# Altium schematic symbol library MEMORIAS.SchLib: 1 symbol
Pins are listed as number, name and electrical type; pins without a type are passive.

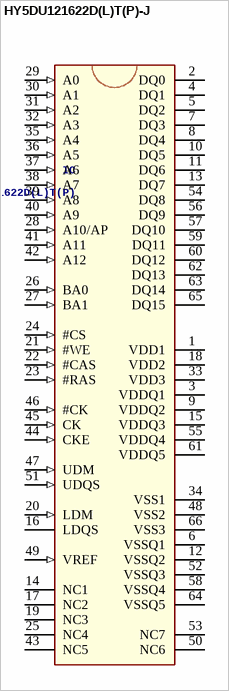
[diagram p0: symbol HY5DU121622D(L)T(P)-J]

## HY5DU121622D(L)T(P)-J
designator IC, comment HY5DU121622D(L)T(P)
IC DRAM 512M PARALLEL 66TSOP II; FABRICANTE: HYNIX; DeviceName: -J; VALUE: HY5DU121622D(L)T(P); MPN: HY5DU121622D(L)T(P); FOOTPRINT: TSOP-II 66PIN; ComponentLink1Description: LOJA; ComponentLink1URL: https://datasheet.lcsc.com/szlcsc/HY5DU121622DTP-D43_C7877.pdf; ComponentLink2Description: DATASHEET; ComponentLink2URL: https://datasheet.lcsc.com/szlcsc/HY5DU121622DTP-D43_C7877.pdf; Manufacturer: Hynix
footprint 66TSOP-II (66-TSSOP (0.400", 10.16mm Width))
pins: 1 VDD1 (power), 2 DQ0, 3 VDDQ1 (power), 4 DQ1, 5 DQ2, 6 VSSQ1 (power), 7 DQ3, 8 DQ4, 9 VDDQ2 (power), 10 DQ5, 11 DQ6, 12 VSSQ2 (power), 13 DQ7, 14 NC1, 15 VDDQ3 (power), 16 LDQS, 17 NC2, 18 VDD2 (power), 19 NC3, 20 LDM (in), 21 #WE (in), 22 #CAS (in), 23 #RAS (in), 24 #CS (in), 25 NC4, 26 BA0 (in), 27 BA1 (in), 28 A10/AP (in), 29 A0 (in), 30 A1 (in), 31 A2 (in), 32 A3 (in), 33 VDD3 (power), 34 VSS1 (power), 35 A4 (in), 36 A5 (in), 37 A6 (in), 38 A7 (in), 39 A8 (in), 40 A9 (in), 41 A11 (in), 42 A12 (in), 43 NC5, 44 CKE (in), 45 CK (in), 46 #CK (in), 47 UDM (in), 48 VSS2 (power), 49 VREF (in), 50 NC6, 51 UDQS (in), 52 VSSQ3 (power), 53 NC7, 54 DQ8, 55 VDDQ4 (power), 56 DQ9, 57 DQ10, 58 VSSQ4 (power), 59 DQ11, 60 DQ12, 61 VDDQ5 (power), 62 DQ13, 63 DQ14, 64 VSSQ5 (power), 65 DQ15, 66 VSS3 (power)